# Altium schematic symbol library NJG1159PHH.SchLib: 1 symbol
Pins are listed as number, name and electrical type; pins without a type are passive.

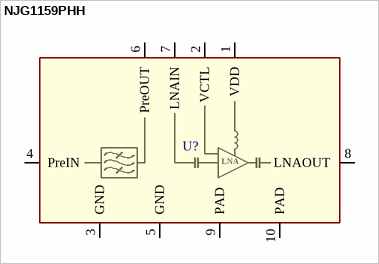
[diagram p0: symbol NJG1159PHH]

## NJG1159PHH
designator U?
GNSS Front-End Module
footprint HFFP10-HH (HFFP10-HH Package))
pins: 1 VDD, 2 VCTL, 3 GND, 4 PreIN, 5 GND, 6 PreOUT, 7 LNAIN, 8 LNAOUT, 9 PAD, 10 PAD
text: LNA